# Altium schematic symbol library WE-TVS.SchLib: 1 symbol
Pins are listed as number, name and electrical type; pins without a type are passive.

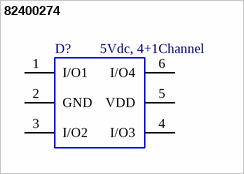
[diagram p0: symbol 82400274]

## 82400274
designator D?, comment 5Vdc, 4+1Channel
WE-TVS TVS Diode - High Speed Series, SC70-6L, 5Vdc, 4+1 Channel; Part Number: 82400274; Reverse Breakdown Voltage min.: 6V; Channel Input Capacitance: 1.2pF; Reverse Peak Pulse Current: 6A; Reverse Channel Leakage Current: 5uA; DC Operating Voltage: 5V; ComponentLink1Description: Manufacturer; ComponentLink1URL: http://www.we-online.de; ComponentLink2Description: Datasheet; ComponentLink2URL: https://katalog.we-online.com/pbs/datasheet/82400274.pdf; Published Date: June 2019; Publisher: Wurth Elektronik; Size: SC70-6L; Channel: 4+1; Operating Temperature: -55 to +85degC; Mounting Technology: SMT; Packaging: Tape and Reel; Supplier 2: JLCPCB; Supplier Part Number 2: C85364
footprint WE-TVS_SC70-6L (TVS Diode, package SC70-6L)
pins: 1 I/O1, 2 GND, 3 I/O2, 4 I/O3, 5 VDD, 6 I/O4